# Altium schematic symbol library AntennaMask.SchLib: 1 symbol
Pins are listed as number, name and electrical type; pins without a type are passive.

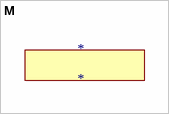
[diagram p0: symbol M]

## M
designator *
footprint PCBComponent_1